# EAGLE library part AT42QT1070 (library jt_parts)
Modified from the Sparkfun footprint
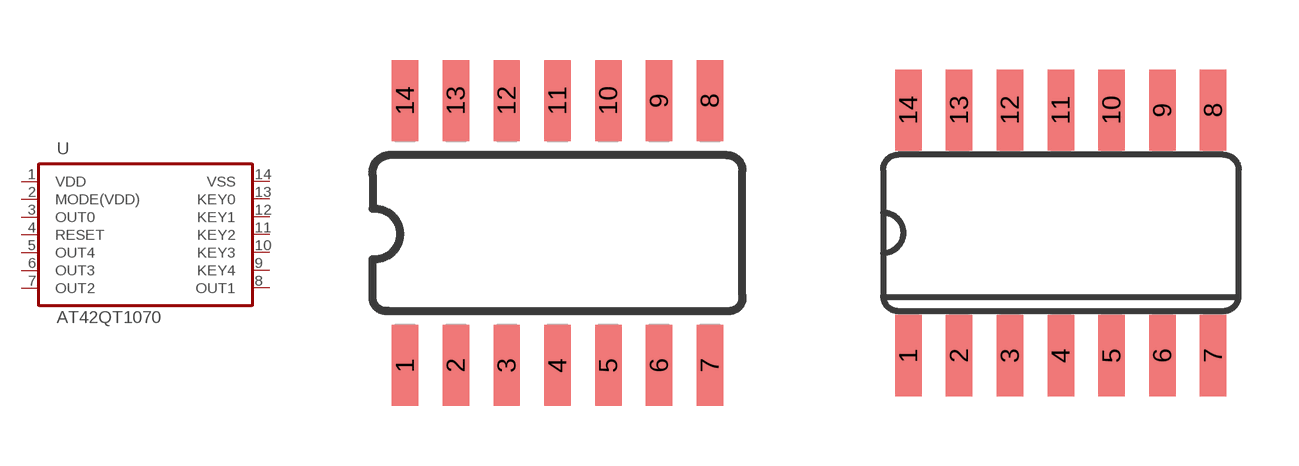
[diagram p4: symbol with the pads of SOIC-14; footprints SOIC-14, SO-14]

Designator prefix -

## AT42QT1070  [SOIC-14]
1  VDD  pwr
2  MODE(VDD)
3  OUT0
4  RESET
5  OUT4
6  OUT3
7  OUT2
8  OUT1
9  KEY4
10  KEY3
11  KEY2
12  KEY1
13  KEY0
14  VSS  pwr

## AT42QT1070SO-14  [SO-14]
Pads as for SOIC-14

## Footprint SOIC-14 (pad centres in mm)
Footprint from Sparkfun DigitalIC Library
smd 0.66 x 2.032: 1 -3.175,-3.315; 2 -1.905,-3.315; 3 -0.635,-3.315; 4 0.635,-3.315; 5 1.905,-3.315; 6 3.175,-3.315; 7 4.445,-3.315; 8 4.445,3.315; 9 3.175,3.315; 10 1.905,3.315; 11 0.635,3.315; 12 -0.635,3.315; 13 -1.905,3.315; 14 -3.175,3.315

## Footprint SO-14 (pad centres in mm)
smd 0.66 x 2.032: 1 -3.81,-3.073; 2 -2.54,-3.073; 3 -1.27,-3.073; 4 0,-3.073; 5 1.27,-3.073; 6 2.54,-3.073; 7 3.81,-3.073; 8 3.81,3.073; 9 2.54,3.073; 10 1.27,3.073; 11 0,3.073; 12 -1.27,3.073; 13 -2.54,3.073; 14 -3.81,3.073